# EAGLE library part ATMEGA8L-8AU (library SamacSys_Parts)
ATMEGA8L-8AU, 8 bit AVR Microcontroller 8MHz 8kb Flash, 1kb RAM, I2C SPI 32-Pin TQFP Source: Datasheet <http://docs-emea.rs-online.com/webdocs/091f/0900766b8091f46e.pdf>
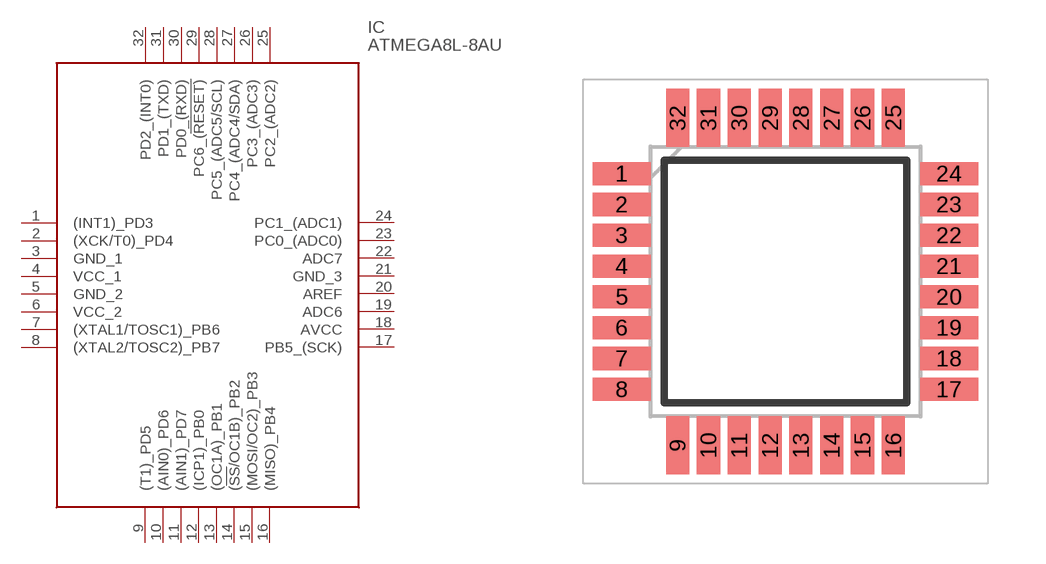
[diagram p1: symbol with the pads of QFP80P900X900X120-32N; footprint QFP80P900X900X120-32N]

Designator prefix IC

## ATMEGA8L-8AU (Arrow_Part_Number: ATMEGA8L-8AU; Arrow_Price-Stock: https://www.arrow.com/en/products/atmega8l-8au/microchip-technology; Description: ATMEGA8L-8AU, 8 bit AVR Microcontroller 8MHz 8kb Flash, 1kb RAM, I2C SPI 32-Pin TQFP; Height: 1.2mm; Manufacturer_Name: Microchip; Manufacturer_Part_Number: ATMEGA8L-8AU; Mouser_Part_Number: 556-ATMEGA8L-8AU; Mouser_Price-Stock: https://www.mouser.co.uk/ProductDetail/Microchip-Technology-Atmel/ATMEGA8L-8AU?qs=%2F3fErP%2Fu%252BPH5Dw57ZlwAWw%3D%3D)  [QFP80P900X900X120-32N]
1  (INT1)_PD3
2  (XCK/T0)_PD4
3  GND_1
4  VCC_1
5  GND_2
6  VCC_2
7  (XTAL1/TOSC1)_PB6
8  (XTAL2/TOSC2)_PB7
9  (T1)_PD5
10  (AIN0)_PD6
11  (AIN1)_PD7
12  (ICP1)_PB0
13  (OC1A)_PB1
14  (!SS!/OC1B)_PB2
15  (MOSI/OC2)_PB3
16  (MISO)_PB4
17  PB5_(SCK)
18  AVCC
19  ADC6
20  AREF
21  GND_3
22  ADC7
23  PC0_(ADC0)
24  PC1_(ADC1)
25  PC2_(ADC2)
26  PC3_(ADC3)
27  PC4_(ADC4/SDA)
28  PC5_(ADC5/SCL)
29  PC6_(!RESET)
30  PD0_(RXD)
31  PD1_(TXD)
32  PD2_(INT0)

## Footprint QFP80P900X900X120-32N (pad centres in mm)
32A(1.2)
smd 1.5 x 0.6: 1 -4.25,2.8; 2 -4.25,2; 3 -4.25,1.2; 4 -4.25,0.4; 5 -4.25,-0.4; 6 -4.25,-1.2; 7 -4.25,-2; 8 -4.25,-2.8; 17 4.25,-2.8; 18 4.25,-2; 19 4.25,-1.2; 20 4.25,-0.4; 21 4.25,0.4; 22 4.25,1.2; 23 4.25,2; 24 4.25,2.8
smd 0.6 x 1.5: 9 -2.8,-4.25; 10 -2,-4.25; 11 -1.2,-4.25; 12 -0.4,-4.25; 13 0.4,-4.25; 14 1.2,-4.25; 15 2,-4.25; 16 2.8,-4.25; 25 2.8,4.25; 26 2,4.25; 27 1.2,4.25; 28 0.4,4.25; 29 -0.4,4.25; 30 -1.2,4.25; 31 -2,4.25; 32 -2.8,4.25